# Altium schematic symbol library Conn_Molex_2039560203_eec.SchLib: 1 symbol
Pins are listed as number, name and electrical type; pins without a type are passive.

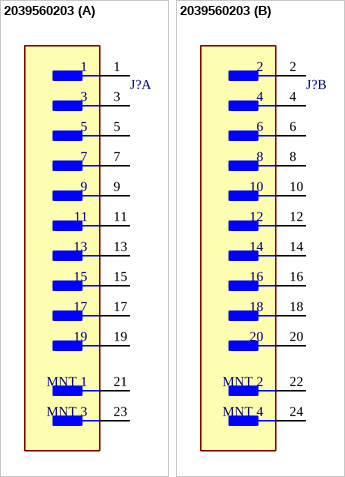
[diagram p0: symbol 2039560203]

## 2039560203
designator J?  (value not drawn)
part A pins: 1, 3, 5, 7, 9, 11, 13, 15, 17, 19, 21 MNT 1, 23 MNT 3
part B pins: 2, 4, 6, 8, 10, 12, 14, 16, 18, 20, 22 MNT 2, 24 MNT 4